# Altium schematic symbol library Nestling_2.1.SchLib: 1 symbol
Pins are listed as number, name and electrical type; pins without a type are passive.

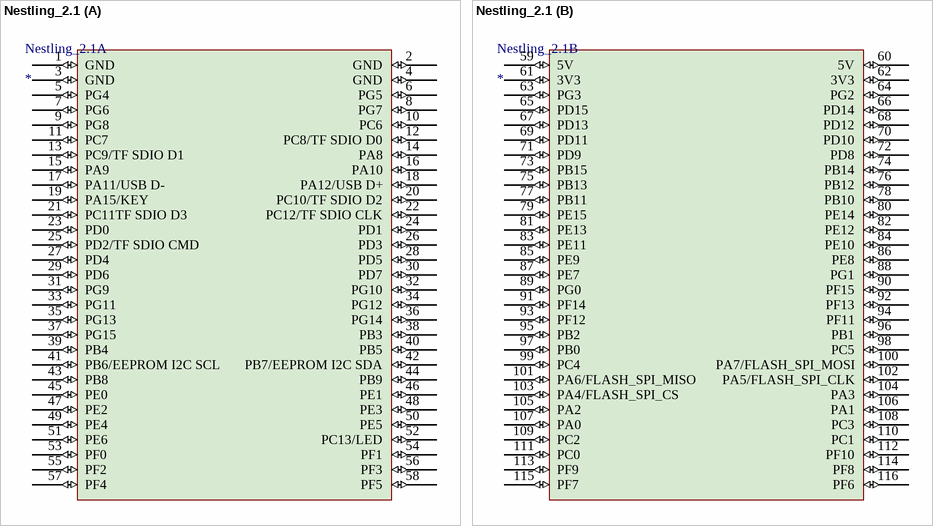
[diagram p0: symbol Nestling_2.1]

## Nestling_2.1
designator Nestling_2.1
footprint Nestling_2.1
part A pins: 1 GND (io), 2 GND (io), 3 GND (io), 4 GND (io), 5 PG4 (io), 6 PG5 (io), 7 PG6 (io), 8 PG7 (io), 9 PG8 (io), 10 PC6 (io), 11 PC7 (io), 12 PC8/TF SDIO D0 (io), 13 PC9/TF SDIO D1 (io), 14 PA8 (io), 15 PA9 (io), 16 PA10 (io), 17 PA11/USB D- (io), 18 PA12/USB D+ (io), 19 PA15/KEY (io), 20 PC10/TF SDIO D2 (io), 21 PC11TF SDIO D3 (io), 22 PC12/TF SDIO CLK (io), 23 PD0 (io), 24 PD1 (io), 25 PD2/TF SDIO CMD (io), 26 PD3 (io), 27 PD4 (io), 28 PD5 (io), 29 PD6 (io), 30 PD7 (io), 31 PG9 (io), 32 PG10 (io), 33 PG11 (io), 34 PG12 (io), 35 PG13 (io), 36 PG14 (io), 37 PG15 (io), 38 PB3 (io), 39 PB4 (io), 40 PB5 (io), 41 PB6/EEPROM I2C SCL (io), 42 PB7/EEPROM I2C SDA (io), 43 PB8 (io), 44 PB9 (io), 45 PE0 (io), 46 PE1 (io), 47 PE2 (io), 48 PE3 (io), 49 PE4 (io), 50 PE5 (io), 51 PE6 (io), 52 PC13/LED (io), 53 PF0 (io), 54 PF1 (io), 55 PF2 (io), 56 PF3 (io), 57 PF4 (io), 58 PF5 (io)
part B pins: 59 5V (io), 60 5V (io), 61 3V3 (io), 62 3V3 (io), 63 PG3 (io), 64 PG2 (io), 65 PD15 (io), 66 PD14 (io), 67 PD13 (io), 68 PD12 (io), 69 PD11 (io), 70 PD10 (io), 71 PD9 (io), 72 PD8 (io), 73 PB15 (io), 74 PB14 (io), 75 PB13 (io), 76 PB12 (io), 77 PB11 (io), 78 PB10 (io), 79 PE15 (io), 80 PE14 (io), 81 PE13 (io), 82 PE12 (io), 83 PE11 (io), 84 PE10 (io), 85 PE9 (io), 86 PE8 (io), 87 PE7 (io), 88 PG1 (io), 89 PG0 (io), 90 PF15 (io), 91 PF14 (io), 92 PF13 (io), 93 PF12 (io), 94 PF11 (io), 95 PB2 (io), 96 PB1 (io), 97 PB0 (io), 98 PC5 (io), 99 PC4 (io), 100 PA7/FLASH_SPI_MOSI (io), 101 PA6/FLASH_SPI_MISO (io), 102 PA5/FLASH_SPI_CLK (io), 103 PA4/FLASH_SPI_CS (io), 104 PA3 (io), 105 PA2 (io), 106 PA1 (io), 107 PA0 (io), 108 PC3 (io), 109 PC2 (io), 110 PC1 (io), 111 PC0 (io), 112 PF10 (io), 113 PF9 (io), 114 PF8 (io), 115 PF7 (io), 116 PF6 (io)